# EAGLE library part NCP5901BDR2G (library ruark2)
Internal Dead Time Half-Bridge Gate Driver IC 8-SOIC
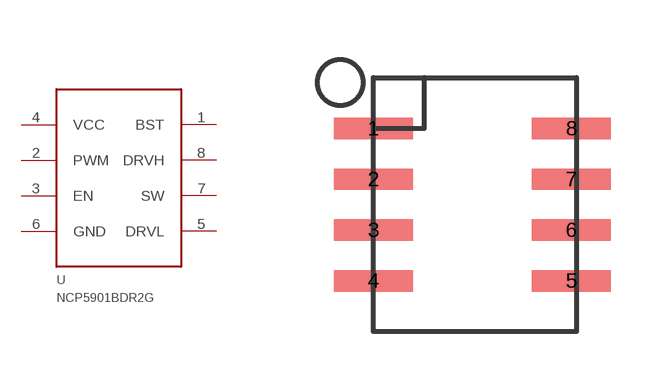
[diagram p43: symbol with the pads of SOIC8; footprint SOIC8]

Designator prefix U

## NCP5901BDR2G (PARTNO: NCP5901BDR2GOSCT-ND)  [SOIC8]
1  BST
2  PWM
3  EN
4  VCC
5  DRVL
6  GND
7  SW
8  DRVH

## Footprint SOIC8 (pad centres in mm)
smd 1.981 x 0.533: 1 -2.477,1.905; 2 -2.477,0.635; 3 -2.477,-0.635; 4 -2.477,-1.905; 5 2.477,-1.905; 6 2.477,-0.635; 7 2.477,0.635; 8 2.477,1.905